# Altium schematic symbol library IMUs (Inertial Measurement Units).SchLib: 1 symbol
Pins are listed as number, name and electrical type; pins without a type are passive.

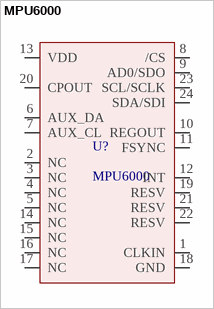
[diagram p0: symbol MPU6000]

## MPU6000
designator U?
Accelerometer, Gyroscope, 6 Axis Sensor I2C, SPI Output / IMU ACCEL/GYRO I2C/SPI 24QFN /; Manufacturer: TDK InvenSense; Designed: Ferdi; ComponentLink1Description: Datasheet; ComponentLink1URL: https://invensense.tdk.com/wp-content/uploads/2015/02/MPU-6000-Datasheet1.pdf; Mounting Type: Surface Mount; Part Status: Obsolete; Sensor Type: Accelerometer, Gyroscope, 6 Axis; Output Type: I2C, SPI; Operating Temperature: -40°C ~ 85°C; Package / Case: 24-VFQFN Module Exposed Pad; Supplier Device Package: 24-QFN (4x4); ComponentLink2Description: Buy; ComponentLink2URL: https://www.digikey.com/en/products/detail/tdk-invensense/MPU-6000/4038005?s=N4IgTCBcDaILIAUCqA2ADBkBdAvkA
pins: 1 CLKIN, 2 NC, 3 NC, 4 NC, 5 NC, 6 AUX_DA, 7 AUX_CL, 8 /CS, 9 AD0/SDO, 10 REGOUT, 11 FSYNC, 12 INT, 13 VDD, 14 NC, 15 NC, 16 NC, 17 NC, 18 GND, 19 RESV, 20 CPOUT, 21 RESV, 22 RESV, 23 SCL/SCLK, 24 SDA/SDI